# Altium schematic symbol library zytek_ctl.SCHLIB: 28 symbols
Pins are listed as number, name and electrical type; pins without a type are passive.

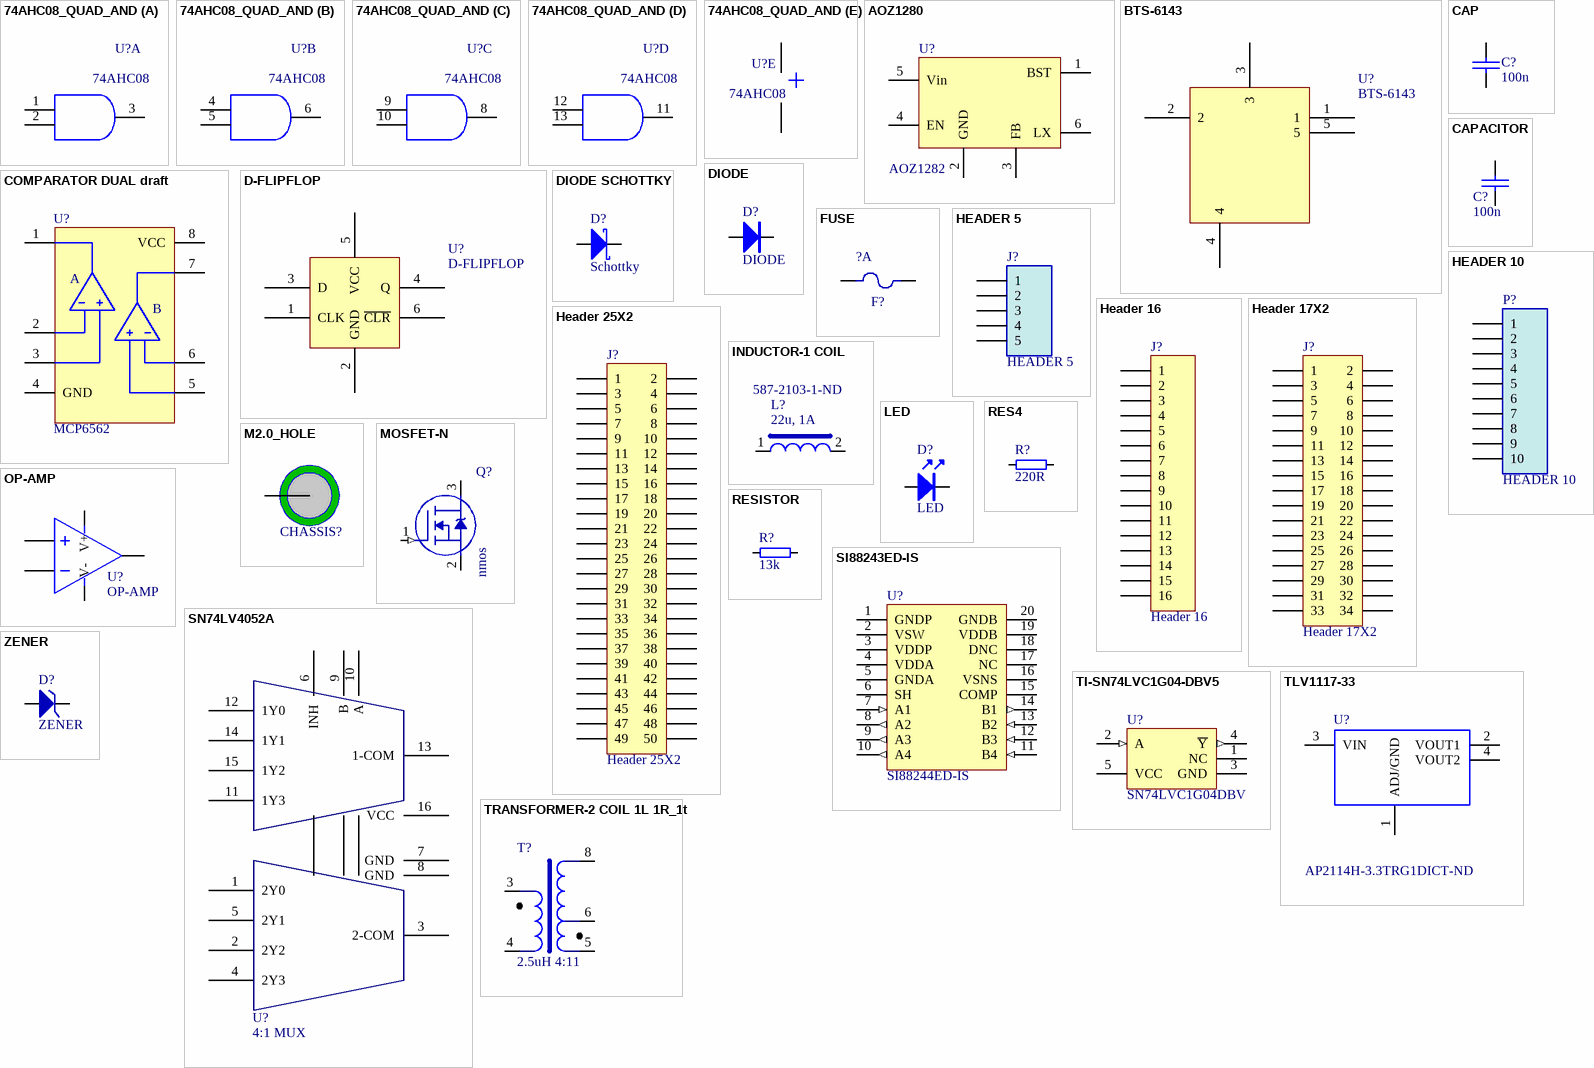
[diagram p0: symbols 74AHC08_QUAD_AND to ZENER]

## 74AHC08_QUAD_AND
designator U?, comment 74AHC08
Quad AND Gate
part A pins: 1 1A, 2 1B, 3 1Y
part B pins: 4 2A, 5 2B, 6 2Y
part C pins: 8 3Y, 9 3A, 10 3B
part D pins: 11 4Y, 12 4A, 13 4B
part E pins: 7 GND, 14 Vcc

## AOZ1280
designator U?, comment AOZ1282
Manufacturer 1: Alpha & Omega AOZ1282CI; Parameter: 1.2A, 4.5V-36V input, 450KHz; Digikey Part Number: 785-1613-1-ND
footprint SOT23-6
pins: 1 BST, 2 GND, 3 FB, 4 EN, 5 Vin, 6 LX

## BTS-6143
designator U?
footprint TO252-5-11
pins: 1, 2, 3, 4, 5

## CAP
designator C?, comment 100n
footprint 0402
footprint 0603 (Chip Resistor, 2-Leads, Body 1.6x0.8mm, IPC Medium Density)
footprint 0805
footprint 1206
pins: 1, 2

## CAPACITOR
designator C?, comment 100n
Capacitor; Status: Draft
footprint 0402
footprint 0603
footprint 0805
footprint 1206
pins: 1, 2

## COMPARATOR DUAL draft
designator U?, comment MCP6562
Manufacturer 1: Microchip MCP6562
footprint SOIC-8
footprint MSOP8
pins: 1 OUTA, 2 -A, 3 +A, 4 GND, 5 +B, 6 -B, 7 OUTB, 8 VCC
text: A; B

## D-FLIPFLOP
designator U?
With reset; Manufacturer 1: TI SN74LVC1G175; Digikey: 296-17617-1-ND
footprint SOT23-6
pins: 1 CLK, 2 GND, 3 D, 4 Q, 5 VCC, 6 ~{CLR}

## DIODE
designator D?
Status: Draft
footprint D-0603 (0603 Diode, 2-Leads, Body 1.7x0.9mm, IPC Medium Density)
footprint D2PAK-3-HOT (D2-PAK, 3-Pads, Body 9.4x10.4mm (max), IPC Medium Density); pin to pad A>2 K>3
footprint DO214AA
pins: A, K

## DIODE SCHOTTKY
designator D?, comment Schottky
Schottky Diode; Manufacturer 1: Micro Commercial Co SD103AWS-TP; Parameter: DIODE SHOTTKY >30V >0.2A; Digikey Part Number: SD103AWSTPMSCT-ND; Status: Draft
footprint DO214AC
footprint SOD323
footprint SOD323-AK
pins: A, K

## FUSE
designator F?, comment ?A
Thermal Fuse
footprint 0805
footprint 0603
footprint 0402
footprint 1206
footprint 1206 (1206, Chip Resistor, 2-Leads, Body 3.1x1.6mm, IPC Medium Density)
pins: 1, 2

## HEADER 5
designator J?
4 Pin Header; Status: Draft
footprint HDR5
footprint Model Name (Footprint not found)
footprint HDR5-5mm
pins: 1, 2, 3, 4, 5

## HEADER 10
designator P?
12 Pin Header; Status: Draft
footprint HDR10
pins: 1, 2, 3, 4, 5, 6, 7, 8, 9, 10

## Header 16
designator J?
Header, 16-Pin; LatestRevisionDate: 17-Jul-2002; LatestRevisionNote: Re-released for DXP Platform.; Publisher: Altium Limited
footprint HDR1X16 (Connector; Header; 16 Position)
signal-integrity model Connector
pins: 1, 2, 3, 4, 5, 6, 7, 8, 9, 10, 11, 12, 13, 14, 15, 16

## Header 17X2
designator J?
Header, 17-Pin, Dual row; LatestRevisionDate: 17-Jul-2002; LatestRevisionNote: Re-released for DXP Platform.; Publisher: Altium Limited
footprint HDR2X17 (Connector; Header; 17x2 Position)
signal-integrity model Connector
footprint HDR2X17_2mm
pins: 1, 2, 3, 4, 5, 6, 7, 8, 9, 10, 11, 12, 13, 14, 15, 16, 17, 18, 19, 20, 21, 22, 23, 24, 25, 26, 27, 28, 29, 30, 31, 32, 33, 34

## Header 25X2
designator J?
Header, 25-Pin, Dual row; LatestRevisionDate: 17-Jul-2002; LatestRevisionNote: Re-released for DXP Platform.; Publisher: Altium Limited
footprint HDR2X25 (Connector; Header; 25x2 Position)
signal-integrity model Connector
footprint HDR2X20_2mm
pins: 1, 2, 3, 4, 5, 6, 7, 8, 9, 10, 11, 12, 13, 14, 15, 16, 17, 18, 19, 20, 21, 22, 23, 24, 25, 26, 27, 28, 29, 30, 31, 32, 33, 34, 35, 36, 37, 38, 39, 40, 41, 42, 43, 44, 45, 46, 47, 48, 49, 50

## INDUCTOR-1 COIL
designator L?, comment 22u, 1A  Supplier Part Number 1: 587-2103-1-ND
Standard single coil inductor; Parameter: INDUCTOR 22uH >1A 1210; Manufacturer 2: *; Manufacturer 3: *; Status: Draft; Supplier 1: Digi-Key
footprint 1210 (1210, Chip Resistor, 2-Leads, Body 3.2x2.5mm, IPC Medium Density)
footprint 2220
pins: 1, 2

## LED
designator D?
footprint 0603_LED (Chip Resistor, 2-Leads, Body 1.6x0.8mm, IPC Medium Density); pin to pad 1>A 2>K
pins: 1 A, 2 K

## M2.0_HOLE
designator CHASSIS?, comment M2.0  (value not drawn)  (no BOM)
2.0mm Hole
footprint M2.0 (2mm PCB Hole - Status = Draft)
footprint M2.0 (2mm PCB Hole - Status = Draft)
footprint M2.5 (3.1mm PCB Hole - Status = Draft)
footprint M3.0 (3.1mm PCB Hole - Status = Draft)
footprint M4.0
pins: 1

## MOSFET-N
designator Q?, comment nmos
N-Channel MOSFET; Manufacturer 1: *; Manufacturer 2: *; Manufacturer 3: *; Parameter: *; Status: Draft
footprint SOT23
footprint DQJ (SON (DQJ) 8 Pin Footprint for CSD16412Q5A)
footprint DQG (SON (DQG) 8 Pin package Body (HxLxW) = 1mm x 3.2mm x 3.2mm - For CSD17304Q3)
footprint TUMT6
footprint CSD17313Q2 (SON (DQK) - 8pins)
footprint SOT223-3 (SOT233 5Pin Package (This footprint meets 1mm clearance), Body (h x l x w) = 2mm x 7.3mm x 6.7mm, Status = Draft); pin to pad 2>3 3>2
footprint D2PAK-2; pin to pad 2>3 3>2
footprint TO-220-Offset2mm; pin to pad 2>3 3>2
footprint DQJ-HOT (SON (DQJ) 8 Pin Footprint for CSD16412Q5A vias for thermal disipation.); pin to pad 1>4 2>1 3>5
pins: 1 G (in), 2 S, 3 D

## OP-AMP
designator U?
Operational Amplifier; Manufacturer 1: Microchip MCP6283T; Parameter: >1MHz, 3.3V, rail-rail.; Digikey Part Number: MCP6283T-E/CHCT-ND; Manufacturer 2: Fairchild FAN4174IS5X; Status: Draft
footprint SOT23-5
footprint SO8; pin to pad 1>6 2>4 4>2 5>7
pins: 1 OUT, 2 V-, 3 IN+, 4 IN-, 5 V+

## RES4
designator R?, comment 220R
Parameter: 1%, Thick or Metal Film, 63mW
footprint 0402
footprint 0603
footprint 0805
footprint 1206
pins: 1, 2

## RESISTOR
designator R?, comment 13k
Resistor; Parameter: <1%, Thick film, 63mW; Status: Draft
footprint 0402
footprint 0603
footprint 0805
footprint 1206
pins: 1, 2

## SI88243ED-IS
designator U?, comment SI88244ED-IS
Low-Power Quad-Channel Digital Isolator, 100 Mbps, 1 kVRMS Isolation Rating, -40 to 125 degC, 16-pin SOIC; Manufacturer: Silicon Labs; PartNumber: SI88243ED-IS; Supplier 1: Digi-Key; Supplier Part Number 1: 336-3242-ND
footprint SLAB-SOIC-20-WB_N (SOIC, 20-Leads, Body 12.8x7.5mm, Pitch 1.27mm, IPC Medium Density)
pins: 1 GNDP, 2 VSW, 3 VDDP, 4 VDDA, 5 GNDA, 6 SH, 7 A1 (in) "Side 1 digital input.", 8 A2 (out) "Side 1 digital input.", 9 A3 (out) "Side 1 digital input.", 10 A4 (out) "Side 1 digital input.", 11 B4 (in) "Side 2 digital output.", 12 B3 (in) "Side 2 digital output.", 13 B2 (in) "Side 2 digital output.", 14 B1 (out) "Side 2 digital output.", 15 COMP, 16 VSNS, 17 NC, 18 DNC, 19 VDDB, 20 GNDB

## SN74LV4052A
designator U?, comment 4:1 MUX
footprint SOIC16 (SOIC, 16-Leads, Body 9.9x3.9mm (max), Pitch 1.27mm, IPC Medium Density)
pins: 1 2Y0, 2 2Y2, 3 2-COM, 4 2Y3, 5 2Y1, 6 INH, 7 GND, 8 GND, 9 B, 10 A, 11 1Y3, 12 1Y0, 13 1-COM, 14 1Y1, 15 1Y2, 16 VCC

## TI-SN74LVC1G04-DBV5
designator U?, comment SN74LVC1G04DBV
Single Inverter Gate SOT-553; Manufacturer: Texas Instruments; Supply Voltage: 1.65 to 5.5 V; ComponentLink3URL: http://www.ti.com/litv/pdf/mpds018i; DatasheetVersion: SCES214Z, 11/2012; ComponentLink2URL: http://www.ti.com/lit/ds/symlink/sn74lvc1g04.pdf; Mounting Technology: Surface Mount; PackageDescription: 5-Pin Plastic Small Outline, Body 1.6 Ã— 2.9 mm, Pitch 0.95 mm; PackageVersion: 4073253-4/K, 03/2006; PackageReference: DBV5; Storage Temperature: -65 to 150 degC; ComponentLink3Description: Package Specification; ComponentLink2Description: Datasheet; Ambient Temperature: -40 to 85 degC; PartNumber: SN74LVC1G04DBV; ComponentLink1Description: Manufacturer URL; ComponentLink1URL: http://www.ti.com/
footprint TI-DBV5_N (SOT23, 5-Leads, Body 2.9x1.6mm, Pitch 0.95mm, IPC Medium Density)
footprint TI-DBV5_M (SOT23, 5-Leads, Body 2.9x1.6mm, Pitch 0.95mm, IPC Low Density)
footprint TI-DBV5_L (SOT23, 5-Leads, Body 2.9x1.6mm, Pitch 0.95mm, IPC Low Density)
footprint SOT23-5
pins: 1 NC, 2 A (in), 3 GND (power), 4 ~{Y} (out), 5 VCC (power)

## TLV1117-33
designator U?, comment AP2114H-3.3TRG1DICT-ND
footprint SOT223 (Small Outline Transistor)
footprint SOT223
pins: 1 ADJ/GND, 2 VOUT1, 3 VIN, 4 VOUT2

## TRANSFORMER-2 COIL 1L 1R_1t
designator T?, comment 2.5uH 4:11
2Coil Transformer 1 on left 1 on right with tap; Phasing: *; Parameter: *; Manufacturer 1: *; Manufacturer 2: *; Manufacturer 3: *; Status: Draft
footprint SMD-EFD-10 (SMD BOBBIN EFD-10)
footprint RM5/I (RM5 Power Core)
pins: 3, 4, 5, 6, 8

## ZENER
designator D?
Zener Diode; Manufacturer 1: *; Manufacturer 2: *; Manufacturer 3: *; Parameter: *; Status: Draft
footprint SOT23; pin to pad A>1 K>3
footprint SOD323; pin to pad A>1 K>2
footprint SOD323-AK
footprint DO214AC
pins: A, K